# Altium footprint library WCAP-ATG5_8X11.5(DXL).PcbLib: 1 footprints
Each footprint in its own frame and in the unit in brackets; x right, y up, seen from the top. Pads: shape width x height; smd on the part's side, far side on the other; paste and mask are expansions set on the pad; w line width, h text height; cw(c..) or ccw(c..) is an arc to the next point about the centre after c.
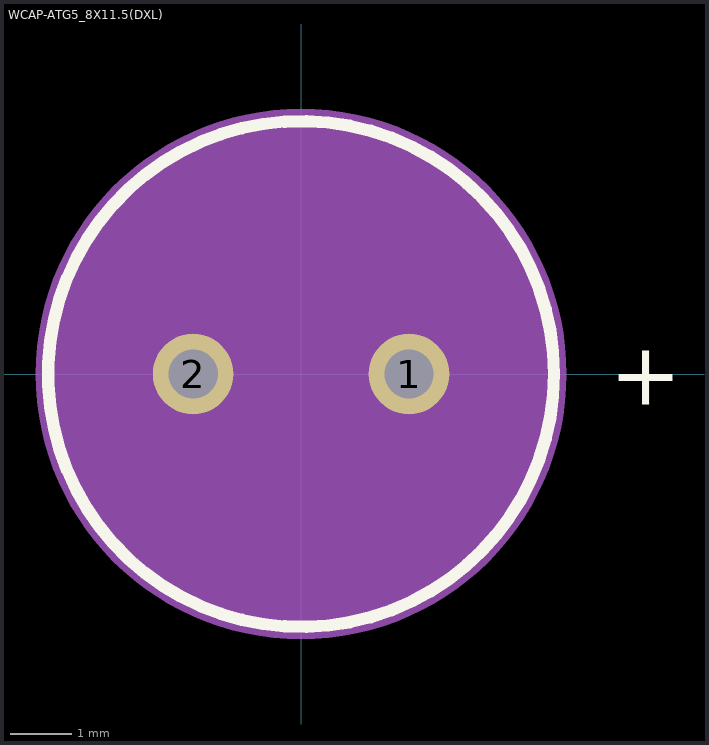
[diagram p0: the footprint, top view; thin cyan lines are the x and y axes]

## WCAP-ATG5_8X11.5(DXL) [mm]
pads (2):
  round 1.308 hole 0.8: 1(1.75,0) 2(-1.75,0)
Top Overlay:
  circle w0.2: c0,0 r4.1
  text "+" at 5,-0.5 h1.02
Assembly Top:
  circle w0.1: c0,0 r4
  text "+" at 5,-0.5 h1.02
Courtyard Top:
  region: 0.225,4.294 0.449,4.276 0.673,4.247 0.894,4.206 1.113,4.153 1.329,4.09 1.541,4.014 1.749,3.928 1.952,3.831 2.15,3.724 2.342,3.606 2.527,3.479 2.706,3.342 2.877,3.196 3.041,3.041 3.196,2.877 3.342,2.706 3.479,2.527 3.606,2.342 3.724,2.15 3.831,1.952 3.928,1.749 4.014,1.541 4.09,1.329 4.153,1.113 4.206,0.894 4.247,0.673 4.276,0.449 4.294,0.225 4.3,0 4.294,-0.225 4.276,-0.449 4.247,-0.673 4.206,-0.894 4.153,-1.113 4.09,-1.329 4.014,-1.541 3.928,-1.749 3.831,-1.952 3.724,-2.15 3.606,-2.342 3.479,-2.527 3.342,-2.706 3.196,-2.877 3.041,-3.041 2.877,-3.196 2.706,-3.342 2.527,-3.479 2.342,-3.606 2.15,-3.724 1.952,-3.831 1.749,-3.928 1.541,-4.014 1.329,-4.09 1.113,-4.153 0.894,-4.206 0.673,-4.247 0.449,-4.276 0.225,-4.294 0,-4.3 -0.225,-4.294 -0.449,-4.276 -0.673,-4.247 -0.894,-4.206 -1.113,-4.153 -1.329,-4.09 -1.541,-4.014 -1.749,-3.928 -1.952,-3.831 -2.15,-3.724 -2.342,-3.606 -2.527,-3.479 -2.706,-3.342 -2.877,-3.196 -3.041,-3.041 -3.196,-2.877 -3.342,-2.706 -3.479,-2.527 -3.606,-2.342 -3.724,-2.15 -3.831,-1.952 -3.928,-1.749 -4.014,-1.541 -4.09,-1.329 -4.153,-1.113 -4.206,-0.894 -4.247,-0.673 -4.276,-0.449 -4.294,-0.225 -4.3,0 -4.294,0.225 -4.276,0.449 -4.247,0.673 -4.206,0.894 -4.153,1.113 -4.09,1.329 -4.014,1.541 -3.928,1.749 -3.831,1.952 -3.724,2.15 -3.606,2.342 -3.479,2.527 -3.342,2.706 -3.196,2.877 -3.041,3.041 -2.877,3.196 -2.706,3.342 -2.527,3.479 -2.342,3.606 -2.15,3.724 -1.952,3.831 -1.749,3.928 -1.541,4.014 -1.329,4.09 -1.113,4.153 -0.894,4.206 -0.673,4.247 -0.449,4.276 -0.225,4.294 0,4.3